# EAGLE library part TMC424 (library trinamic)
TRINAMIC 3-axis incremental encoder interface with position scaling Information given in this library is believed to be accurate and reliable. However no warranty is given for its correctness. Datasheet for TMC424 <http://www.trinamic.com/tmc/media/Downloads/integrated_circuits/TMC424/TMC424_datasheet.pdf> Description 3-axis incremental encoder interface with position scaling The TMC424 is a triple incremental encoder input chip, which interfaces to any SPI compatible controller. The TMC424 can especially be used in conjunction with the TMC428 triple stepper motor controller to provide position verification or stabilization using some additional software. It integrates 24 bit counters for each encoder to provide a high position resolution without CPU interaction. Further it allows dynamic resolution adaptation to allow direct comparison of encoder counters with motors using different micro step resolution. All encoder counters can be latched synchronously, or whenever a null channel event occurs, providing a position on strobe holding function. The TMC424 also provides a step / direction output with programmable signal shaping for the TMC428 as an optional function as well as a multiplexer function for the reference switch inputs. The TMC424 the direct successor of the discontinued TMC423. Specifications Applications Stepper Motor Position Verification Position Maintenance Incremental Encoder Interface Readout Step / Direction conversion for TMC428 systems Features Supports 2 and 3 channel incremental encoders with a wide range of resolutions Allows step / direction signal extraction from TMC428 output data stream Programmable pulse shaping for step / direction interface 24 bit integrated position resolution Programmable prescaler for Incremental Encoder Interface 4-times evaluation of encoder signals Fast 32 bit SPI interface Can share SPI interface with TMC428 and supplies separate interrupt output Integrates Reference Switch Multiplexors Package: TQ100 Note: SPI is Trademark of Motorola, Inc
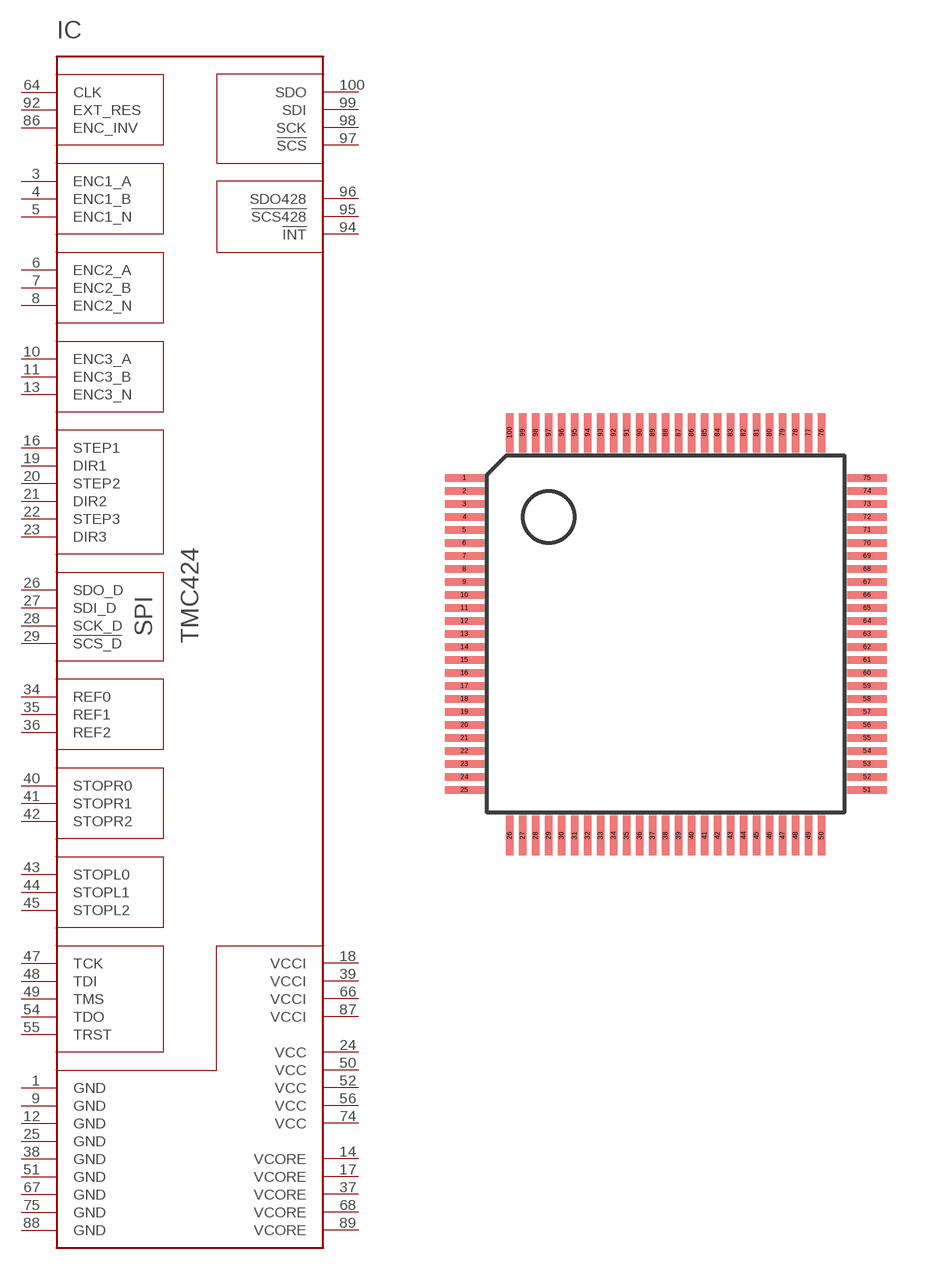
[diagram p19: symbol with the pads of TQFP100; footprint TQFP100]

Designator prefix IC

## TMC424  [TQFP100]
1  GND  in
3  ENC1_A  in
4  ENC1_B  in
5  ENC1_N  in
6  ENC2_A  in
7  ENC2_B  in
8  ENC2_N  in
9  GND  in
10  ENC3_A  in
11  ENC3_B  in
12  GND  in
13  ENC3_N  in
14  VCORE  in
16  STEP1  out
17  VCORE  in
18  VCCI  in
19  DIR1  out
20  STEP2  out
21  DIR2  out
22  STEP3  out
23  DIR3  out
24  VCC  in
25  GND  in
26  SDO_D  out
27  SDI_D  in
28  SCK_D  in
29  !SCS_D  in
34  REF0  out
35  REF1  out
36  REF2  out
37  VCORE  in
38  GND  in
39  VCCI  in
40  STOPR0  in
41  STOPR1  in
42  STOPR2  in
43  STOPL0  in
44  STOPL1  in
45  STOPL2  in
47  TCK  in
48  TDI  in
49  TMS  in
50  VCC  in
51  GND  in
52  VCC  in
54  TDO  out
55  TRST  in
56  VCC  in
64  CLK
66  VCCI  in
67  GND  in
68  VCORE  in
74  VCC  in
75  GND  in
86  ENC_INV
87  VCCI  in
88  GND  in
89  VCORE  in
92  EXT_RES
94  !INT  out
95  !SCS428  in
96  SDO428  in
97  !SCS  in
98  SCK  in
99  SDI  in
100  SDO  out

## Footprint TQFP100 (pad centres in mm)
smd 1.5 x 0.27: 1 -7.75,6; 2 -7.75,5.5; 3 -7.75,5; 4 -7.75,4.5; 5 -7.75,4; 6 -7.75,3.5; 7 -7.75,3; 8 -7.75,2.5; 9 -7.75,2; 10 -7.75,1.5; 11 -7.75,1; 12 -7.75,0.5; 13 -7.75,0; 14 -7.75,-0.5; 15 -7.75,-1; 16 -7.75,-1.5; 17 -7.75,-2; 18 -7.75,-2.5; 19 -7.75,-3; 20 -7.75,-3.5; 21 -7.75,-4; 22 -7.75,-4.5; 23 -7.75,-5; 24 -7.75,-5.5; 25 -7.75,-6; 51 7.75,-6; 52 7.75,-5.5; 53 7.75,-5; 54 7.75,-4.5; 55 7.75,-4; 56 7.75,-3.5; 57 7.75,-3; 58 7.75,-2.5; 59 7.75,-2; 60 7.75,-1.5; 61 7.75,-1; 62 7.75,-0.5; 63 7.75,0; 64 7.75,0.5; 65 7.75,1; 66 7.75,1.5; 67 7.75,2; 68 7.75,2.5; 69 7.75,3; 70 7.75,3.5; 71 7.75,4; 72 7.75,4.5; 73 7.75,5; 74 7.75,5.5; 75 7.75,6
smd 0.27 x 1.5: 26 -6,-7.75; 27 -5.5,-7.75; 28 -5,-7.75; 29 -4.5,-7.75; 30 -4,-7.75; 31 -3.5,-7.75; 32 -3,-7.75; 33 -2.5,-7.75; 34 -2,-7.75; 35 -1.5,-7.75; 36 -1,-7.75; 37 -0.5,-7.75; 38 0,-7.75; 39 0.5,-7.75; 40 1,-7.75; 41 1.5,-7.75; 42 2,-7.75; 43 2.5,-7.75; 44 3,-7.75; 45 3.5,-7.75; 46 4,-7.75; 47 4.5,-7.75; 48 5,-7.75; 49 5.5,-7.75; 50 6,-7.75; 76 6,7.75; 77 5.5,7.75; 78 5,7.75; 79 4.5,7.75; 80 4,7.75; 81 3.5,7.75; 82 3,7.75; 83 2.5,7.75; 84 2,7.75; 85 1.5,7.75; 86 1,7.75; 87 0.5,7.75; 88 0,7.75; 89 -0.5,7.75; 90 -1,7.75; 91 -1.5,7.75; 92 -2,7.75; 93 -2.5,7.75; 94 -3,7.75; 95 -3.5,7.75; 96 -4,7.75; 97 -4.5,7.75; 98 -5,7.75; 99 -5.5,7.75; 100 -6,7.75